# EAGLE library part 93C46 (library escd)
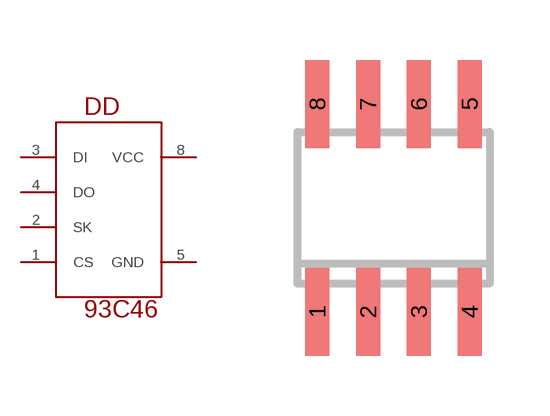
[diagram p2: symbol with the pads of SO08; footprint SO08]

Designator prefix DD

## 93C46  [SO08]
1  CS
2  SK
3  DI
4  DO
5  GND
8  VCC

## Footprint SO08 (pad centres in mm)
SMALL OUTLINE INTEGRATED CIRCUIT body 3.9 mm/JEDEC MS-012AA
smd 0.6 x 2.2: 1 -1.905,-2.6; 2 -0.635,-2.6; 3 0.635,-2.6; 4 1.905,-2.6; 5 1.905,2.6; 6 0.635,2.6; 7 -0.635,2.6; 8 -1.905,2.6